# Altium footprint library MP34DT05-A.PcbLib: 1 footprints
Each footprint in its own frame and in the unit in brackets; x right, y up, seen from the top. Pads: shape width x height; smd on the part's side, far side on the other; paste and mask are expansions set on the pad; w line width, h text height; cw(c..) or ccw(c..) is an arc to the next point about the centre after c.
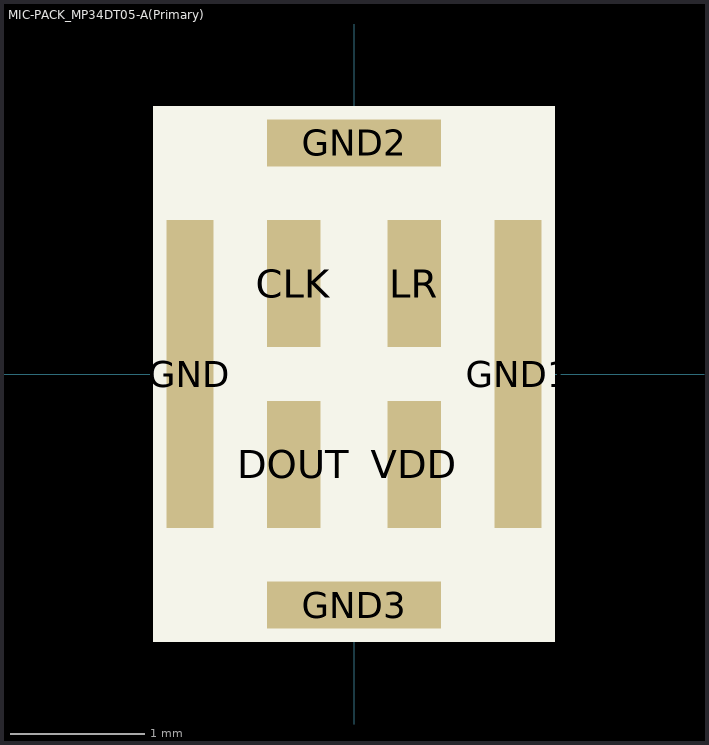
[diagram p0: the footprint, top view; thin cyan lines are the x and y axes]

## MIC-PACK_MP34DT05-A(Primary) [mm]
pads (8):
  rect 0.4x0.95 smd: CLK(-0.45,0.675) DOUT(-0.45,-0.675) LR(0.45,0.675) VDD(0.45,-0.675)
  rect 0.35x2.3 smd: GND(-1.225,0) GND1(1.225,0)
  rect 1.3x0.35 smd: GND2(0,1.725) GND3(0,-1.725)
Top Overlay:
  region: -1.5,2 1.5,2 1.5,-2 -1.5,-2